# Altium schematic symbol library AP62300TWU-7.SchLib: 1 symbol
Pins are listed as number, name and electrical type; pins without a type are passive.

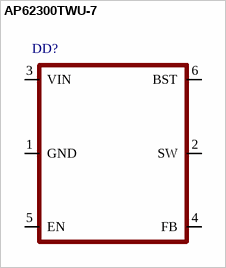
[diagram p0: symbol AP62300TWU-7]

## AP62300TWU-7
designator DD?
pins: 1 GND, 2 SW, 3 VIN, 4 FB, 5 EN, 6 BST